# EAGLE library part SW_DPDT_NKK_B22AV (library wheat)
SWICTH, DPDT RA, NKK B22AV
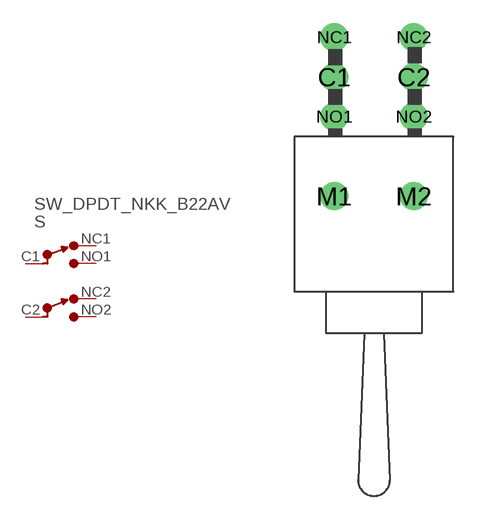
[diagram p77: symbol with the pads of SW_DPDT_RA_TOG; footprint SW_DPDT_RA_TOG]

Designator prefix S

## SW_DPDT_NKK_B22AV  [SW_DPDT_RA_TOG]
C1  C1  pas
C2  C2  pas
NC1  NC1  pas
NC2  NC2  pas
NO1  NO1  pas
NO2  NO2  pas

## Footprint SW_DPDT_RA_TOG (pad centres in mm)
SWITCH, NKK B22AV
drill 0.813 pad 1.778: C1 -2.54,17.526; C2 2.54,17.526; M1 -2.54,9.906; M2 2.54,9.906; NC1 -2.54,20.066; NC2 2.54,20.066; NO1 -2.54,14.986; NO2 2.54,14.986